# EAGLE library part ATSAMD21J15B (library pimoroni-ics)
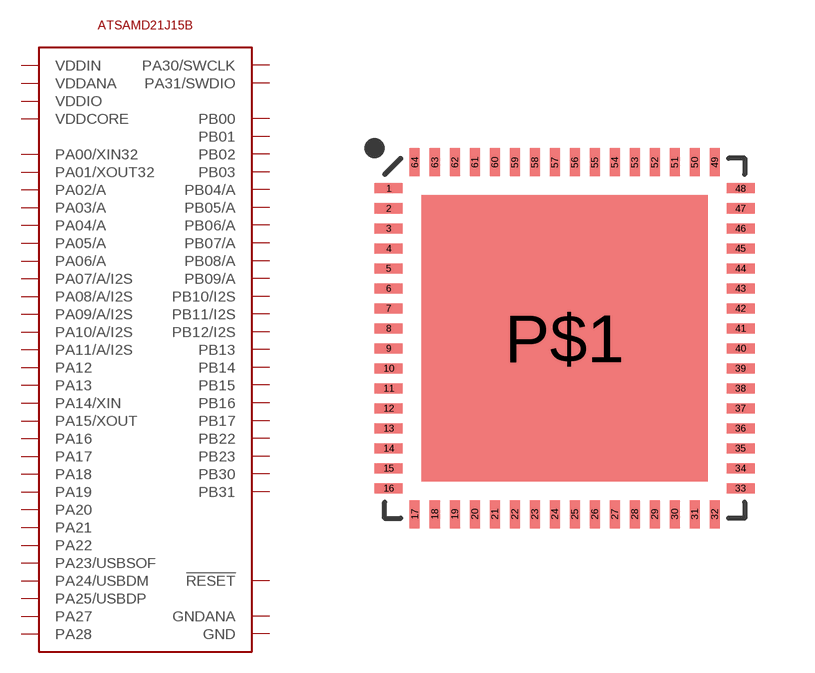
[diagram p86: symbol with the pads of QFN-64; footprint QFN-64]

Designator prefix -

## ATSAMD21J15B  [QFN-64]
1  PA00/XIN32
2  PA01/XOUT32
3  PA02/A
4  PA03/A
5  PB04/A
6  PB05/A
7  GNDANA
8  VDDANA
9  PB06/A
10  PB07/A
11  PB08/A
12  PB09/A
13  PA04/A
14  PA05/A
15  PA06/A
16  PA07/A/I2S
17  PA08/A/I2S
18  PA09/A/I2S
19  PA10/A/I2S
20  PA11/A/I2S
21  VDDIO
22  GND
23  PB10/I2S
24  PB11/I2S
25  PB12/I2S
26  PB13
27  PB14
28  PB15
29  PA12
30  PA13
31  PA14/XIN
32  PA15/XOUT
33  GND
34  VDDIO
35  PA16
36  PA17
37  PA18
38  PA19
39  PB16
40  PB17
41  PA20
42  PA21
43  PA22
44  PA23/USBSOF
45  PA24/USBDM
46  PA25/USBDP
47  GND
48  VDDIO
49  PB22
50  PB23
51  PA27
52  !RESET
53  PA28
54  GND
55  VDDCORE
56  VDDIN
57  PA30/SWCLK
58  PA31/SWDIO
59  PB30
60  PB31
61  PB00
62  PB01
63  PB02
64  PB03

## Footprint QFN-64 (pad centres in mm)
smd 0.7 x 0.25: 1 -4.4,3.75; 2 -4.4,3.25; 3 -4.4,2.75; 4 -4.4,2.25; 5 -4.4,1.75; 6 -4.4,1.25; 7 -4.4,0.75; 8 -4.4,0.25; 9 -4.4,-0.25; 10 -4.4,-0.75; 11 -4.4,-1.25; 12 -4.4,-1.75; 13 -4.4,-2.25; 14 -4.4,-2.75; 15 -4.4,-3.25; 16 -4.4,-3.75; 33 4.4,-3.75; 34 4.4,-3.25; 35 4.4,-2.75; 36 4.4,-2.25; 37 4.4,-1.75; 38 4.4,-1.25; 39 4.4,-0.75; 40 4.4,-0.25; 41 4.4,0.25; 42 4.4,0.75; 43 4.4,1.25; 44 4.4,1.75; 45 4.4,2.25; 46 4.4,2.75; 47 4.4,3.25; 48 4.4,3.75
smd 0.25 x 0.7: 17 -3.75,-4.4; 18 -3.25,-4.4; 19 -2.75,-4.4; 20 -2.25,-4.4; 21 -1.75,-4.4; 22 -1.25,-4.4; 23 -0.75,-4.4; 24 -0.25,-4.4; 25 0.25,-4.4; 26 0.75,-4.4; 27 1.25,-4.4; 28 1.75,-4.4; 29 2.25,-4.4; 30 2.75,-4.4; 31 3.25,-4.4; 32 3.75,-4.4; 49 3.75,4.4; 50 3.25,4.4; 51 2.75,4.4; 52 2.25,4.4; 53 1.75,4.4; 54 1.25,4.4; 55 0.75,4.4; 56 0.25,4.4; 57 -0.25,4.4; 58 -0.75,4.4; 59 -1.25,4.4; 60 -1.75,4.4; 61 -2.25,4.4; 62 -2.75,4.4; 63 -3.25,4.4; 64 -3.75,4.4
smd 7.15 x 7.15: P$1 0,0